# EAGLE library part HDR-2X4 (library RS-extra-cons)
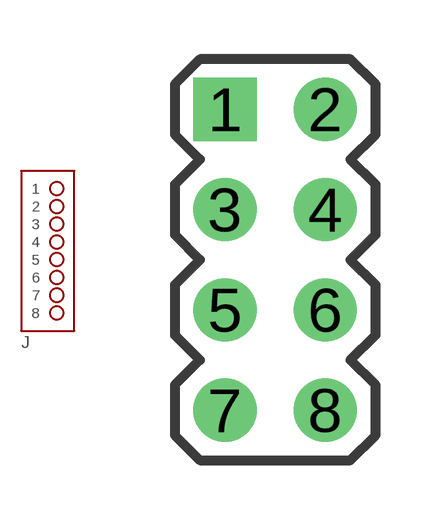
[diagram p13: symbol with the pads of HDR-2X4; footprint HDR-2X4]

Designator prefix J

## HDR-2X4  [HDR-2X4]
1  1  pas
2  2  pas
3  3  pas
4  4  pas
5  5  pas
6  6  pas
7  7  pas
8  8  pas

## Footprint HDR-2X4 (pad centres in mm)
drill 1.067 square: 1 -1.27,3.81
drill 1.067: 2 1.27,3.81; 3 -1.27,1.27; 4 1.27,1.27; 5 -1.27,-1.27; 6 1.27,-1.27; 7 -1.27,-3.81; 8 1.27,-3.81